# Altium footprint library AMPHENOL_10061913.PcbLib: 1 footprints
Each footprint in its own frame and in the unit in brackets; x right, y up, seen from the top. Pads: shape width x height; smd on the part's side, far side on the other; paste and mask are expansions set on the pad; w line width, h text height; cw(c..) or ccw(c..) is an arc to the next point about the centre after c.
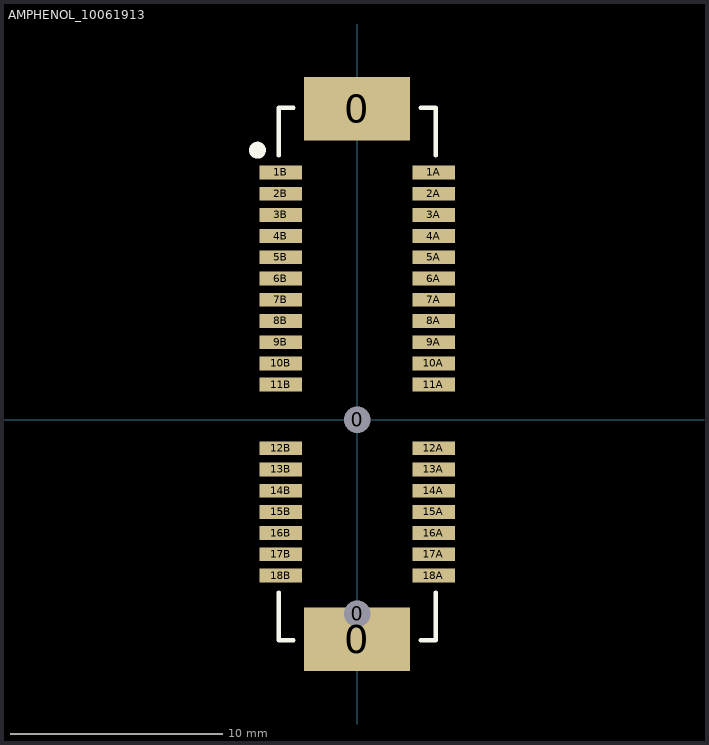
[diagram p0: the footprint, top view; thin cyan lines are the x and y axes]

## AMPHENOL_10061913 [mm] "PCIe Socket"
pads (40):
  rect 5x3 smd paste-2.5 mask+0.05: 0(0,-10.35)
  round 1.2 hole 1.25 unplated: 0(0,-9.15) 0(0,0)
  rect 5x3 smd paste-0.07 mask+0.05: 0(0,14.65)
  rect 2x0.65 smd paste-0.085 mask+0.05: 1A(3.6,11.65) 1B(-3.6,11.65) 2A(3.6,10.65) 2B(-3.6,10.65) 3A(3.6,9.65) 3B(-3.6,9.65) 4A(3.6,8.65) 4B(-3.6,8.65) 5A(3.6,7.65) 5B(-3.6,7.65) 6A(3.6,6.65) 6B(-3.6,6.65) 7A(3.6,5.65) 7B(-3.6,5.65) 8A(3.6,4.65) 8B(-3.6,4.65) 9A(3.6,3.65) 9B(-3.6,3.65) 10A(3.6,2.65) 10B(-3.6,2.65) 11A(3.6,1.65) 11B(-3.6,1.65) 12A(3.6,-1.35) 12B(-3.6,-1.35) 13A(3.6,-2.35) 13B(-3.6,-2.35) 14A(3.6,-3.35) 14B(-3.6,-3.35) 15A(3.6,-4.35) 15B(-3.6,-4.35) 16A(3.6,-5.35) 16B(-3.6,-5.35) 17A(3.6,-6.35) 17B(-3.6,-6.35) 18A(3.6,-7.35) 18B(-3.6,-7.35)
Top Overlay:
  circle w0.4: c-4.7,12.7 r0.2
  lines w0.2: -3.7,-8.15 -3.7,-10.4 -3,-10.4 ; -3.7,12.45 -3.7,14.7 -3,14.7 ; 3,-10.4 3.7,-10.4 3.7,-8.15 ; 3,14.7 3.7,14.7 3.7,12.45
Top Paste:
  region: -2.4,-8.95 -0.8,-8.95 -0.8,-11.75 -2.4,-11.75
  region: 0.8,-8.95 2.4,-8.95 2.4,-11.75 0.8,-11.75
  region: -0.8,-9.9 0.8,-9.9 0.8,-11.75 -0.8,-11.75
3D body "10061913-xx0.stp": height 11.09, standoff -0.91, extent -5.1,-11.35 4.1,15.65